# Altium footprint library CAPACITOR_300mil_1.PcbLib: 1 footprints
Each footprint in its own frame and in the unit in brackets; x right, y up, seen from the top. Pads: shape width x height; smd on the part's side, far side on the other; paste and mask are expansions set on the pad; w line width, h text height; cw(c..) or ccw(c..) is an arc to the next point about the centre after c.
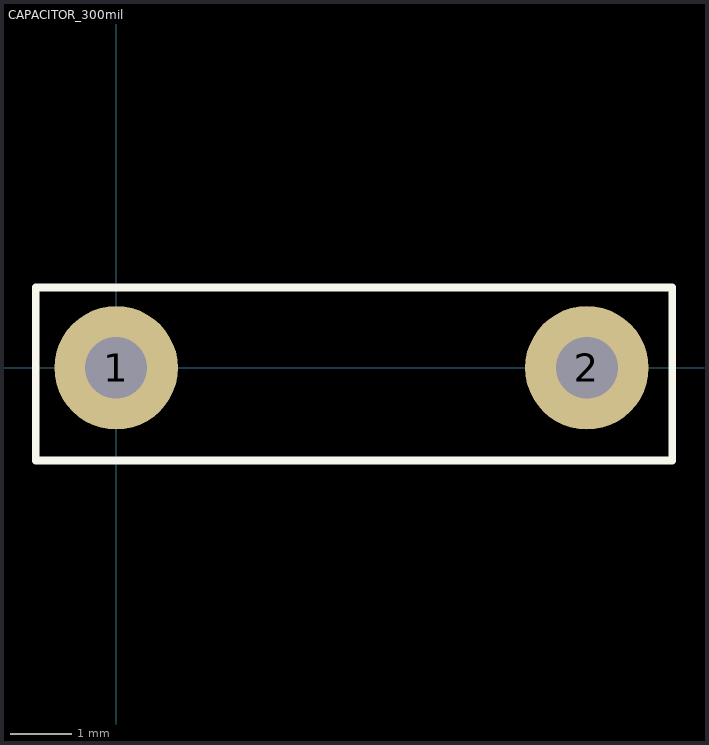
[diagram p0: the footprint, top view; thin cyan lines are the x and y axes]

## CAPACITOR_300mil [mm]
pads (2):
  round 2 hole 1: 1(0,0) 2(7.62,0)
Top Overlay:
  lines w0.127: -1.3,-1.5 9,-1.5 9,1.3 6.425,1.3 4.638,1.3 2.862,1.3 1.675,1.3 -1.3,1.3 -1.3,-1.5